# Altium schematic symbol library W25Q128JV.SchLib: 1 symbol
Pins are listed as number, name and electrical type; pins without a type are passive.

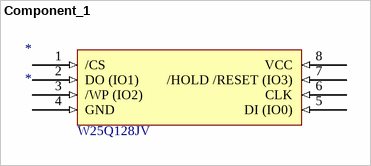
[diagram p0: symbol Component_1]

## Component_1
designator *
footprint SOIC-8 - duplicate
pins: 1 /CS (in), 2 DO (IO1) (in), 3 /WP (IO2) (in), 4 GND (in), 5 DI (IO0) (in), 6 CLK (in), 7 /HOLD /RESET (IO3) (in), 8 VCC (in)
text: W25Q128JV